# Altium footprint library SAMTEC_TSW-114-07-G-S.PcbLib: 1 footprints
Each footprint in its own frame and in the unit in brackets; x right, y up, seen from the top. Pads: shape width x height; smd on the part's side, far side on the other; paste and mask are expansions set on the pad; w line width, h text height; cw(c..) or ccw(c..) is an arc to the next point about the centre after c.
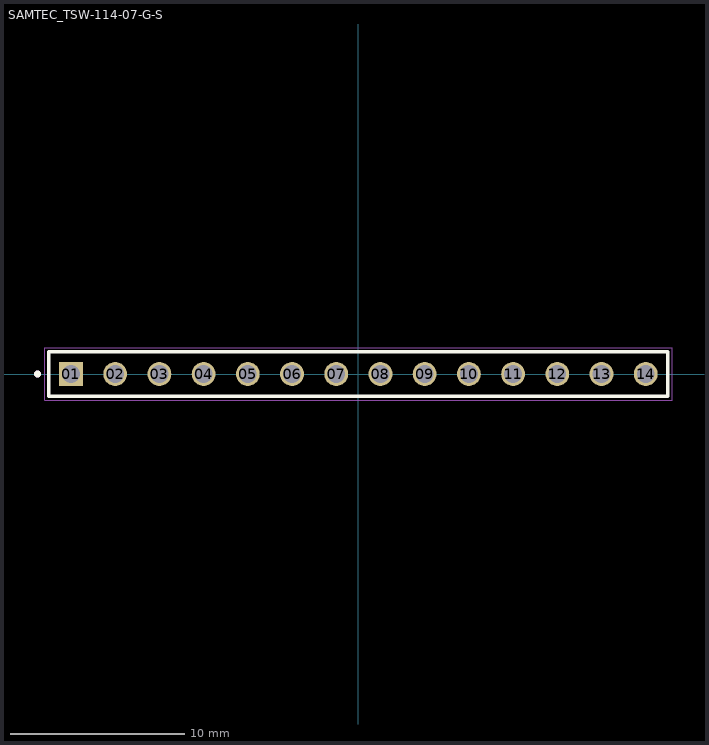
[diagram p0: the footprint, top view; thin cyan lines are the x and y axes]

## SAMTEC_TSW-114-07-G-S [mm]
pads (14):
  rect 1.37x1.37 hole 1.02: 01(-16.51,0)
  round 1.37 hole 1.02: 02(-13.97,0) 03(-11.43,0) 04(-8.89,0) 05(-6.35,0) 06(-3.81,0) 07(-1.27,0) 08(1.27,0) 09(3.81,0) 10(6.35,0) 11(8.89,0) 12(11.43,0) 13(13.97,0) 14(16.51,0)
Top Overlay:
  circle w0.2: c-18.43,0 r0.1
  lines w0.2: -17.78,-1.27 -17.78,1.27 17.78,1.27 17.78,-1.27 -17.78,-1.27
Mechanical 13:
  circle w0.2: c-18.43,0 r0.1
  lines w0.1: -17.78,-1.27 -17.78,1.27 ; -17.78,-1.27 17.78,-1.27 ; -17.78,-1.27 -17.78,1.27 ; -17.78,1.27 17.78,1.27 ; -17.78,1.27 17.78,1.27 ; 17.78,-1.27 17.78,1.27 ; 17.78,-1.27 17.78,1.27
Mechanical 15:
  lines w0.05: -18.03,-1.52 -18.03,1.52 18.03,1.52 18.03,-1.52 -18.03,-1.52